# Altium footprint library GCT_FFC2B35-06-G_REVA2.PcbLib: 1 footprints
Each footprint in its own frame and in the unit in brackets; x right, y up, seen from the top. Pads: shape width x height; smd on the part's side, far side on the other; paste and mask are expansions set on the pad; w line width, h text height; cw(c..) or ccw(c..) is an arc to the next point about the centre after c.
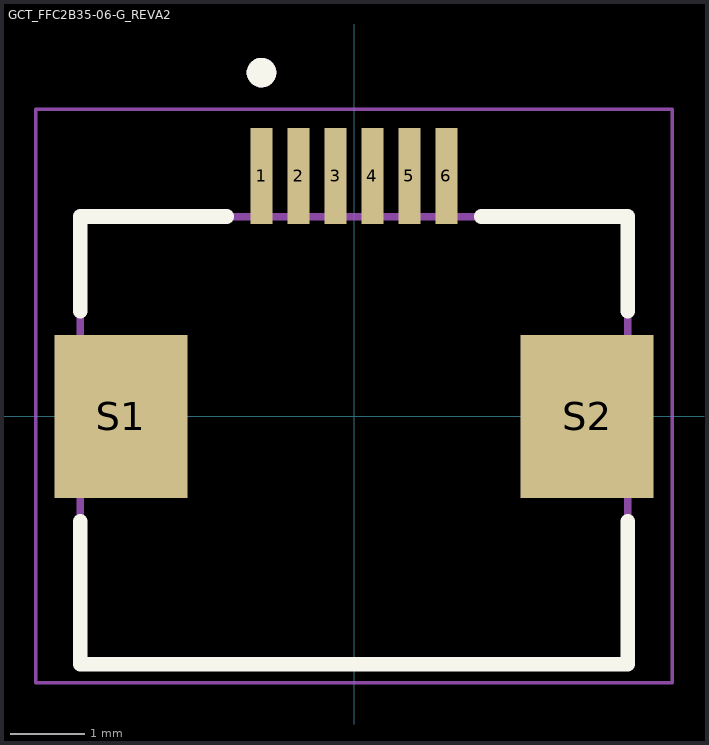
[diagram p0: the footprint, top view; thin cyan lines are the x and y axes]

## GCT_FFC2B35-06-G_REVA2 [mm]
pads (8):
  rect 0.3x1.3 smd: 1(-1.25,3.25) 2(-0.75,3.25) 3(-0.25,3.25) 4(0.25,3.25) 5(0.75,3.25) 6(1.25,3.25)
  rect 1.8x2.2 smd: S1(-3.15,0) S2(3.15,0)
Top Overlay:
  circle w0.2: c-1.25,4.646 r0.1
  lines w0.2: -3.7,-1.42 -3.7,-3.35 3.7,-3.35 3.7,-1.42 ; -3.7,1.42 -3.7,2.7 -1.72,2.7 ; 1.72,2.7 3.7,2.7 3.7,1.42
Mechanical 13:
  circle w0.2: c-1.25,4.646 r0.1
  lines w0.1: -3.7,-3.35 3.7,-3.35 3.7,2.7 -3.7,2.7 -3.7,-3.35
Mechanical 15:
  lines w0.05: -4.3,-3.6 -4.3,4.15 4.3,4.15 4.3,-3.6 -4.3,-3.6